# Altium schematic symbol library LM27761DSGT.SchLib: 1 symbol
Pins are listed as number, name and electrical type; pins without a type are passive.

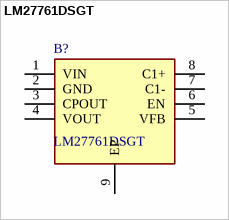
[diagram p0: symbol LM27761DSGT]

## LM27761DSGT
designator B?
Low-Noise Regulated Inverter with Integrated LDO; Manufacturer_Name: Texas Instruments; Geometry.Height: 0.8mm; Mouser Part Number: 595-LM27761DSGT; Mouser Price/Stock: https://www.mouser.co.uk/ProductDetail/Texas-Instruments/LM27761DSGT?qs=jK8VN%252BJp1h5Sdnd3ViQCNQ%3D%3D; Manufacturer_Part_Number: LM27761DSGT; Datasheet Link: http://www.ti.com/general/docs/lit/getliterature.tsp?genericPartNumber=LM27761&&fileType=pdf
footprint SON50P200X200X80-9N
pins: 1 VIN, 2 GND, 3 CPOUT, 4 VOUT, 5 VFB, 6 EN, 7 C1-, 8 C1+, 9 EP